# Altium footprint library SF063.PcbLib: 1 footprints
Each footprint in its own frame and in the unit in brackets; x right, y up, seen from the top. Pads: shape width x height; smd on the part's side, far side on the other; paste and mask are expansions set on the pad; w line width, h text height; cw(c..) or ccw(c..) is an arc to the next point about the centre after c.
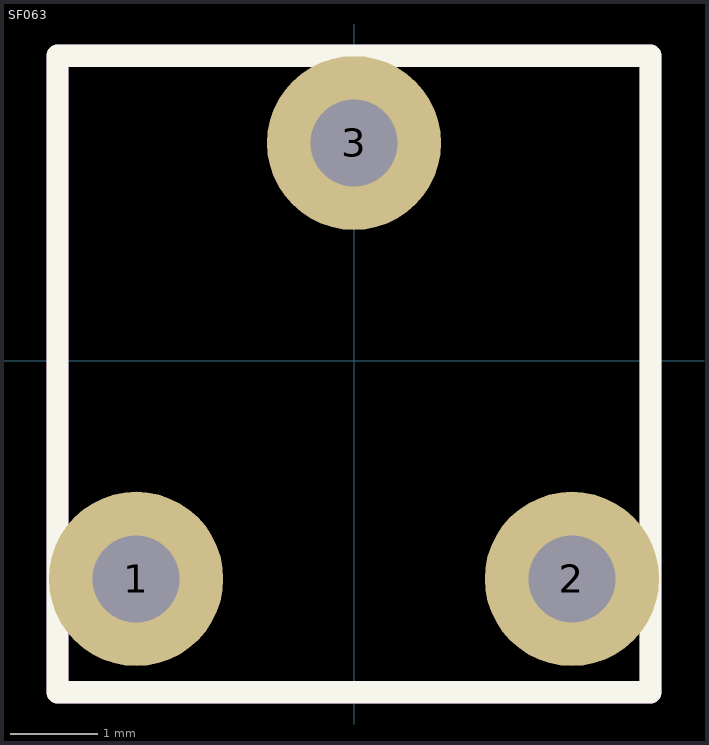
[diagram p0: the footprint, top view; thin cyan lines are the x and y axes]

## SF063 [mm]
pads (3):
  round 2 hole 1: 1(-2.5,-2.5) 2(2.5,-2.5) 3(0,2.5)
Top Overlay:
  lines w0.254: -3.4,-3.8 -3.4,3.5 3.4,3.5 3.4,-3.8 -3.4,-3.8
Top Assembly:
  lines w0.254: -3.4,-3.8 -3.4,3.5 3.4,3.5 3.4,-3.8 1.8,-3.8 -3.4,-3.8
  text "'.Designator'" at 0,0 h0.7
3D body "User Library-Pot - RES_VAR1.STEP": height 8, standoff -2.9, extent -3.25,-3.675 3.25,3.375